# Altium footprint library TH Inductor.PcbLib: 4 footprints
Each footprint in its own frame and in the unit in brackets; x right, y up, seen from the top. Pads: shape width x height; smd on the part's side, far side on the other; paste and mask are expansions set on the pad; w line width, h text height; cw(c..) or ccw(c..) is an arc to the next point about the centre after c.
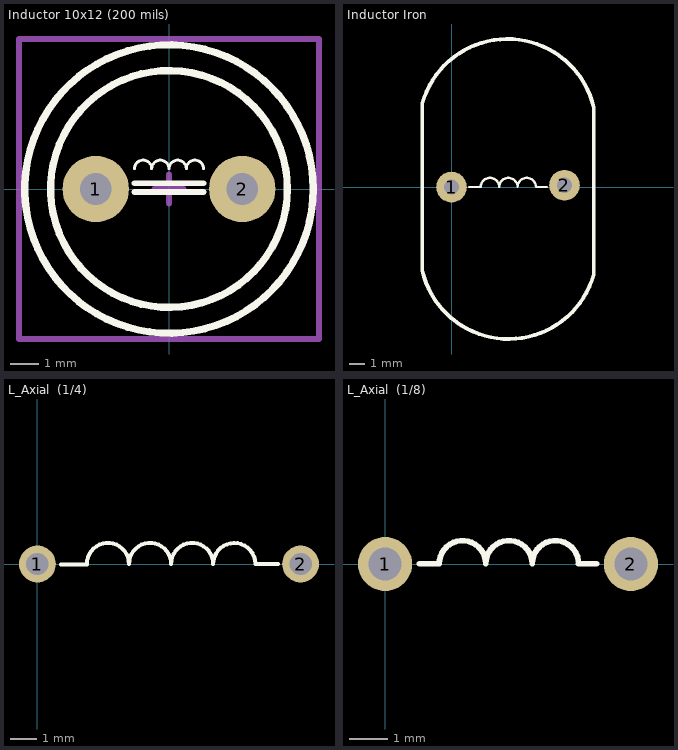
[diagram p0: the footprints below, top view; thin cyan lines are the x and y axes]

## Inductor 10x12 (200 mils) [mm] "POWER INDUCTOR 10x12 (200 mils) DESIGNER ABBAS BASEREH"
height 12
pads (2):
  round 2.3 hole 1.1: 1(-2.54,0) 2(2.54,0)
Top Overlay:
  circle w0.254: c0,0 r4.105
  circle w0.254: c0,0 r5
  lines w0.1: -1.2,0.7 cw(c-0.9,0.7) -0.6,0.7 cw(c-0.3,0.7) 0,0.7 cw(c0.3,0.7) 0.6,0.7 cw(c0.9,0.7) 1.2,0.7
  lines w0.2: -1.2,-0.1 1.2,-0.1 ; -1.2,0.2 1.2,0.2
Mechanical 15:
  lines w0.2: -0.5,0 0.5,0 ; 0,-0.5 0,0.5 ; -5.2,-5.2 -5.2,5.2 5.2,5.2 5.2,-5.2 -5.2,-5.2
3D body "User Library-Inductor 10x12 (200 mils).STEP": height 12.13, standoff -3.87, extent -5,-5 5,5

## Inductor Iron [mm]
pads (2):
  round 2 hole 1: 1(0,0) 2(7.366,0.127)
Top Overlay:
  lines w0.15: 1.143,0 1.905,0 cw(c2.505,0) 3.105,0 cw(c3.705,0) 4.305,0 cw(c4.905,0) 5.505,0 6.223,0
  lines w0.25: -1.905,-5.461 -1.905,5.461 ; 9.271,-5.715 9.271,5.207
  lines w0.254: -1.905,-5.461 ccw(c3.716,-4.13) 9.271,-5.715 ; -1.905,5.461 cw(c3.65,3.876) 9.271,5.207
3D body "User Library-5701-RC.STEP": height 28.03, standoff -7, extent -1.977,-11.21 9.343,11.21

## L_Axial  (1/4) [mm]
pads (2):
  round 1.4 hole 0.85: 1(0,0) 2(10,0)
Top Overlay:
  lines w0.15: 0.889,-0.019 1.88,-0.019 ; 1.88,0 cw(c2.68,0) 3.48,0 cw(c4.28,0) 5.08,0 cw(c5.88,0) 6.68,0 cw(c7.48,0) 8.28,0.019 ; 8.28,0 9.144,0

## L_Axial  (1/8) [mm]
pads (2):
  round 1.4 hole 0.85: 1(0,0) 2(6.35,0)
Top Overlay:
  lines w0.15: 0.889,0.004 1.4,0.004 cw(c2,0.004) 2.6,0.004 cw(c3.2,0.004) 3.8,0.004 cw(c4.4,0.004) 5,0.004 5.461,0.004
3D body "Inductor.STEP": height 2.92, standoff -1, extent -0.254,-0.92 6.604,0.92